# Altium footprint library SOP Advance.PcbLib: 1 footprints
Each footprint in its own frame and in the unit in brackets; x right, y up, seen from the top. Pads: shape width x height; smd on the part's side, far side on the other; paste and mask are expansions set on the pad; w line width, h text height; cw(c..) or ccw(c..) is an arc to the next point about the centre after c.
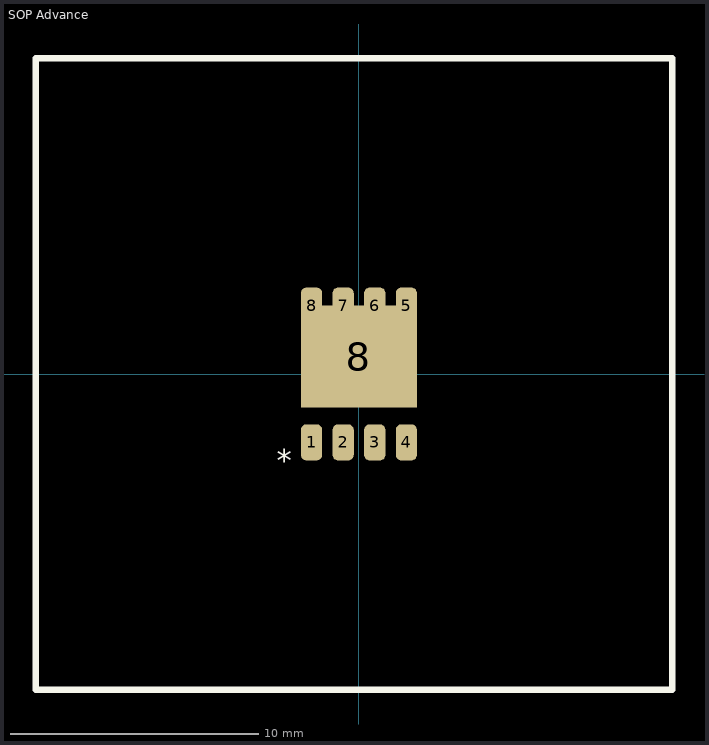
[diagram p0: the footprint, top view; thin cyan lines are the x and y axes]

## SOP Advance [mm]
pads (9):
  rrect50% 0.85x1.45 smd: 1(-1.905,-2.75) 2(-0.635,-2.75) 3(0.635,-2.75) 4(1.905,-2.75) 5(1.905,2.75) 6(0.635,2.75) 7(-0.635,2.75) 8(-1.905,2.75)
  rect 4.66x4.1 smd: 8(0,0.7)
Top Layer keep-out:
  region: -3,4
  region: 5.4,1.2
Top Overlay:
  lines w0.254: -13,-12.7 12.6,-12.7 12.6,12.7 -13,12.7 -13,-12.7
  text "*" at -3.3,-4.2 h1.52
3D body: height 0.25, standoff 0, extent -2.5,-2.5 2.5,2.5